# EAGLE library part IP5306 (library IP5306)
IP5306
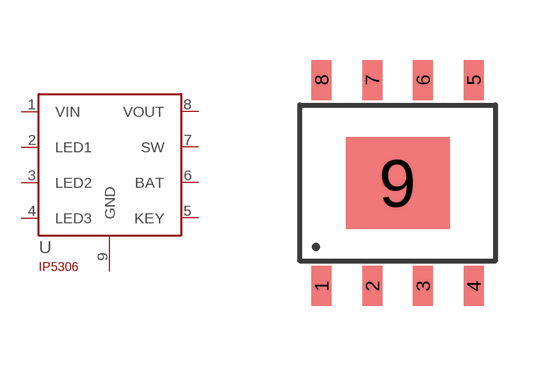
[diagram p0: symbol with the pads of SOT23-8; footprint SOT23-8]

Designator prefix -

## IP5306  [SOT23-8]
1  VIN
2  LED1
3  LED2
4  LED3
5  KEY
6  BAT
7  SW
8  VOUT
9  GND

## Footprint SOT23-8 (pad centres in mm)
Package SOP-8PP http://goo.gl/2DAeEi
smd 0.5 x 1: 1 -1.905,-2.58; 2 -0.635,-2.58; 3 0.635,-2.58; 4 1.905,-2.58; 5 1.905,2.58; 6 0.635,2.58; 7 -0.635,2.58; 8 -1.905,2.58
smd 2.6 x 2.3: 9 0,0